# Altium schematic symbol library Toilet Timer.SCHLIB: 19 symbols
Pins are listed as number, name and electrical type; pins without a type are passive.

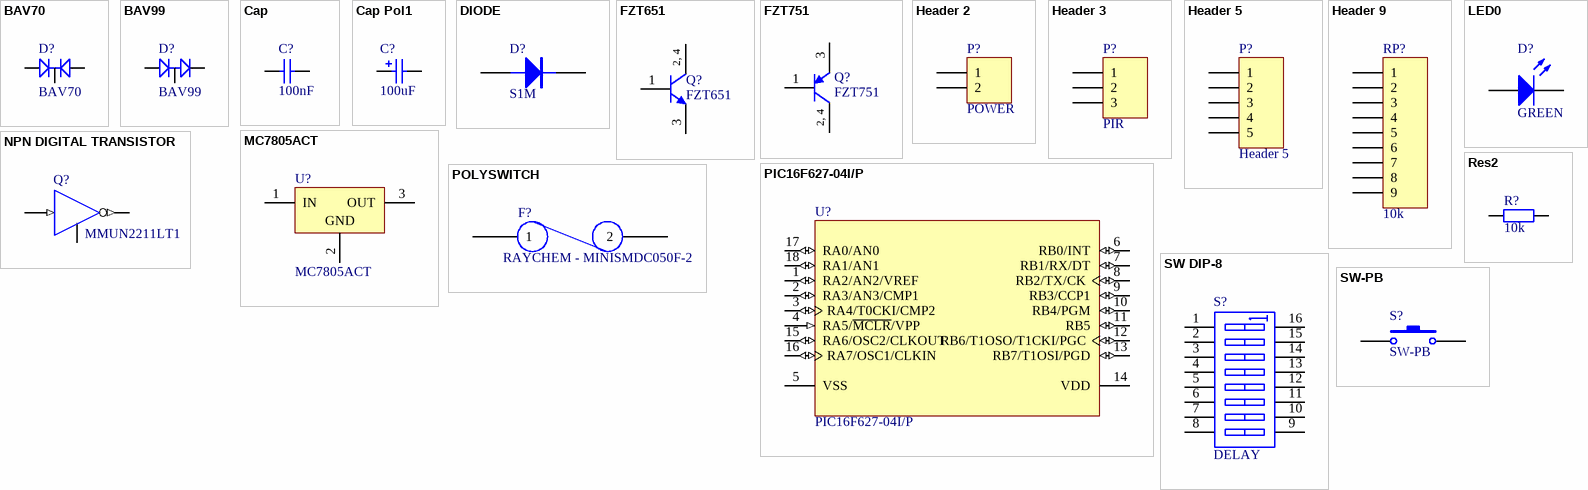
[diagram p0: symbols BAV70 to SW-PB]

## BAV70
designator D?
DUAL DIODE, BAV99; Manufacturer: FAIRCHILD SEMICONDUCTOR; Farnell Part no.: 9843612; Manufacturer Part No.: BAV99; PackageReference: SOT-23; value: BAV99; Web link: http://au.mouser.com/ProductDetail/NXP/BAV99-T3/?qs=84A%2fDAdkstK527JD1pwcnQ%3d%3d
footprint SOT23-3L (SOT23, 3-Leads, Body 2.9x1.3mm, Pitch 0.95mm, Lead Span 2.5mm, IPC High Density)
pins: 1 A1, 2 A2, 3 C

## BAV99
designator D?
DUAL DIODE, BAV99; Manufacturer: FAIRCHILD SEMICONDUCTOR; Mouser Part no.: 771-BAV99/T3; Farnell Part no.: 9843612; Manufacturer Part No.: BAV99; PackageReference: SOT-23; value: BAV99; Web link: http://au.mouser.com/ProductDetail/NXP/BAV99-T3/?qs=84A%2fDAdkstK527JD1pwcnQ%3d%3d
footprint SOT23-3L (SOT23, 3-Leads, Body 2.9x1.3mm, Pitch 0.95mm, Lead Span 2.5mm, IPC High Density)
pins: 1 A1, 2 C2, 3 C1/A2

## Cap
designator C?  value 100nF  (hidden comment: Cap)
Capacitor; Mouser Part No.: K104Z15Y5VE5TH5
simulation model CAP (Capacitor)
signal-integrity model Cap
footprint CAP(3D) - 0805
pins: 1, 2

## Cap Pol1
designator C?  value 100uF  (hidden comment: Cap Pol1)
Polarized Capacitor (Radial); Mouser Part No.: 647-UVR1H101MPD1TA
footprint CAP, SMD E CASE
pins: 1, 2
1 alternate drawing of the same symbol

## DIODE
designator D?, comment S1M
DIODE, POWER; Manufacturer: Taiwan Semiconductor; Mouser Part no.: 821-S1M; Farnell Part no.: 9843841; Manufacturer Part No.: S1M; Web link: http://au.mouser.com/ProductDetail/Taiwan-Semiconductor/S1M/?qs=sGAEpiMZZMtEwUVCuofpuOlSmRjzJonf%252bmrIm0%252bGbjE%3d
footprint DO-214AC
pins: 1 A, 2 K

## FZT651
designator Q?
SOT223 NPN Silicon Planar High-Performance Transistor; Published: 8-Jun-2000; LatestRevisionDate: 21-May-2003; LatestRevisionNote: PCB Footprint 'DSO-G3/D7' Renamed.; DatasheetVersion: Feb-1995; PackageVersion: 2002; PackageReference: SOT223; Publisher: Altium Limited; PackageDescription: SOT-223/SC-73; 4 Leads; Body 6.7 x 7.3 mm, inc. leads (LxW max); Code_JEDEC: TO-261-AA-B; ComponentLink1Description: Manufacturer Link; ComponentLink1URL: http://www.zetex.com/; ComponentLink2Description: Datasheet; ComponentLink2URL: www.zetex.com/3.0/pdf/FZT651.pdf
simulation model FZT651 (NPN)
signal-integrity model FZT651
footprint SOT223 (SOT-223/SC-73; 4 Leads; Body 6.7 x 7.3 mm, inc. leads (LxW max))
pins: 1 B, 2 C, 3 E, 4 C
text: 2, 4

## FZT751
designator Q?
SOT223 PNP Silicon Planar High-Performance Transistor; Published: 8-Jun-2000; LatestRevisionDate: 21-May-2003; LatestRevisionNote: PCB Footprint 'DSO-G3/D7' Renamed.; DatasheetVersion: Feb-1995; PackageVersion: 2002; PackageReference: SOT223; Publisher: Altium Limited; PackageDescription: SOT-223/SC-73; 4 Leads; Body 6.7 x 7.3 mm, inc. leads (LxW max); Code_JEDEC: TO-261-AA-B; ComponentLink1Description: Manufacturer Link; ComponentLink1URL: http://www.zetex.com/; ComponentLink2Description: Datasheet; ComponentLink2URL: www.zetex.com/3.0/pdf/FZT751.pdf
simulation model FZT751 (PNP)
signal-integrity model FZT751
footprint SOT223 (SOT-223/SC-73; 4 Leads; Body 6.7 x 7.3 mm, inc. leads (LxW max))
pins: 1 B, 2 C, 3 E, 4 C
text: 2, 4

## Header 2
designator P?, comment POWER
Header, 2-Pin; LatestRevisionDate: 17-Jul-2002; LatestRevisionNote: Re-released for DXP Platform.; Publisher: Altium Limited
signal-integrity model Connector
footprint TYCO  1776112-2 (3.5mm Pitch Low Profile Connector (2 Way))
pins: 1, 2

## Header 3
designator P?, comment PIR
Header, 3-Pin; LatestRevisionDate: 17-Jul-2002; LatestRevisionNote: Re-released for DXP Platform.; Publisher: Altium Limited
signal-integrity model Connector
footprint TYCO  1776112-3 (3.5mm Pitch Low Profile Connector (3 Way))
pins: 1, 2, 3

## Header 5
designator P?
Header, 5-Pin; Value: TYCO 640456-5; Mouser Part No.: 571-6404565
signal-integrity model Connector
footprint TERMINAL-6 POL
pins: 1, 2, 3, 4, 5

## Header 9
designator RP?, comment 10k
Header, 9-Pin; Mouser Part No.: 660-MF1/4LCT52R103J; Value: 10k
footprint HDR1X9 (Connector; Header; 9 Position)
signal-integrity model Connector
pins: 1, 2, 3, 4, 5, 6, 7, 8, 9

## LED0
designator D?, comment GREEN
Typical INFRARED GaAs LED; Value: 5mm GREEN; Mouser Part No.: 606-4308H5
simulation model LED0 (Diode)
footprint LED(3D) GREEN - 0805
pins: 1 A, 2 K

## MC7805ACT
designator U?
3-Terminal Positive Fixed Voltage Regulator; Value: LM7805ACT; Mouser Part No.: 512-LM7805ACT
footprint 7805 - DPAK
pins: 1 IN (power), 2 GND (power), 3 OUT (power)

## NPN DIGITAL TRANSISTOR
designator Q?, comment MMUN2211LT1
Manufacturer: ON Semiconductor; Manufacturer Part No.: MMUN2211LT1G; Mouser Part no.: 863-MMUN2211LT1G; Farnell Part no.: 9556648RL; Web link: http://au.mouser.com/ProductDetail/ON-Semiconductor/MMUN2211LT1G/?qs=ZpPixqFcBtxv5UXtkbhqPw%3d%3d
footprint SOT23-3L (SOT23, 3-Leads, Body 2.9x1.3mm, Pitch 0.95mm, Lead Span 2.5mm, IPC High Density)
pins: 1 B (in), 2 E, 3 C (out)

## PIC16F627-04I/P
designator U?
FLASH-Based 8-Bit CMOS Microcontroller, 1K (x14-Bit words) FLASH, 224 Bytes RAM, 4 MHz, 18-Pin PDIP, 3.0 to 5.5V Supply Range, Industrial Temperature; Value: PIC16F627A-I/P; Mouser Part No.: 579-PIC16F627A-I/P
footprint SOIC-18
pins: 1 RA2/AN2/VREF (io), 2 RA3/AN3/CMP1 (io), 3 RA4/T0CKI/CMP2 (io), 4 RA5/~{MCLR}/VPP (in), 5 VSS (power), 6 RB0/INT (io), 7 RB1/RX/DT (io), 8 RB2/TX/CK (io), 9 RB3/CCP1 (io), 10 RB4/PGM (io), 11 RB5 (io), 12 RB6/T1OSO/T1CKI/PGC (io), 13 RB7/T1OSI/PGD (io), 14 VDD (power), 15 RA6/OSC2/CLKOUT (io), 16 RA7/OSC1/CLKIN (io), 17 RA0/AN0 (io), 18 RA1/AN1 (io)

## POLYSWITCH
designator F?, comment RAYCHEM - MINISMDC050F-2
Manufacturer: Tyco Electronics / Raychem; Mouser Part no.: 650-MINISMDC050F-2; Farnell Part no.: 1175839; Manufacturer Part No.: MINISMDC050F-2; Web link: http://au.mouser.com/ProductDetail/Tyco-Electronics/MINISMDC050F-2/?qs=k5V78Jg%2feq42japyR7WJvA%3d%3d
footprint miniSMD Polyswitch (RAYCHEM - MINISMDC050F-2)
pins: 1, 2

## Res2
designator R?  value 10k  (hidden comment: Res2)
Resistor; Mouser Part No.: 660-MF1/4LCT52R103J
simulation model RESISTOR (Resistor)
signal-integrity model Res
footprint RES(3D) - 0805
pins: 1, 2

## SW DIP-8
designator S?, comment DELAY
DIP Switch, 8 Position, SPST; Value: DIP8; Mouser Part No.: 774-2068
simulation model dpsw8 (Spice Subcircuit)
footprint S-DIP-16 (DIP; 16 Trim Leads; Row Spacing 7.62 mm; Pitch 2.54 mm)
pins: 1 A1, 2 A2, 3 A3, 4 A4, 5 A5, 6 A6, 7 A7, 8 A8, 9 B8, 10 B7, 11 B6, 12 B5, 13 B4, 14 B3, 15 B2, 16 B1

## SW-PB
designator S?
Switch; Value: 6mm TACT; Mouser Part No.: 642-MJTP1230
footprint TACT 6MM
pins: 1, 2